# EAGLE library part AT45DB01X (library memory-atmel)
EEPROM SPI bus serial
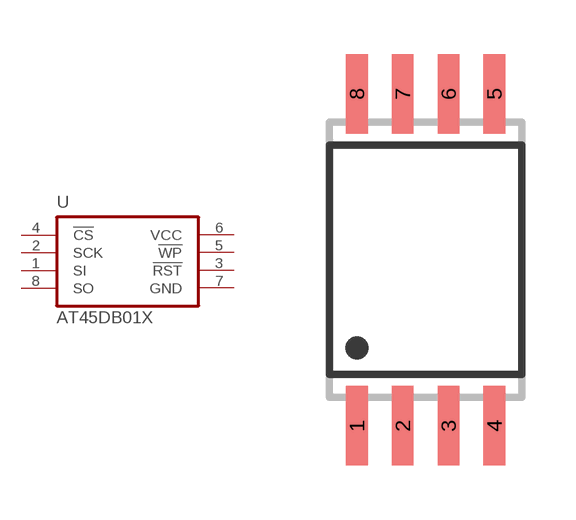
[diagram p2: symbol with the pads of SO08W; footprint SO08W]

Designator prefix U

## AT45DB01XA  [SO08W]
1  SI
2  SCK
3  !RST!
4  !CS!
5  !WP!
6  VCC  pwr
7  GND  pwr
8  SO

## Footprint SO08W (pad centres in mm)
SMALL OUTLINE INTEGRATED CIRCUIT wide body 7.5 mm/JEDEC MA-012AB
smd 0.6 x 2.2: 1 -1.905,-4.6; 2 -0.635,-4.6; 3 0.635,-4.6; 4 1.905,-4.6; 5 1.905,4.6; 6 0.635,4.6; 7 -0.635,4.6; 8 -1.905,4.6